# Altium footprint library MBS.PcbLib: 1 footprints
Each footprint in its own frame and in the unit in brackets; x right, y up, seen from the top. Pads: shape width x height; smd on the part's side, far side on the other; paste and mask are expansions set on the pad; w line width, h text height; cw(c..) or ccw(c..) is an arc to the next point about the centre after c.
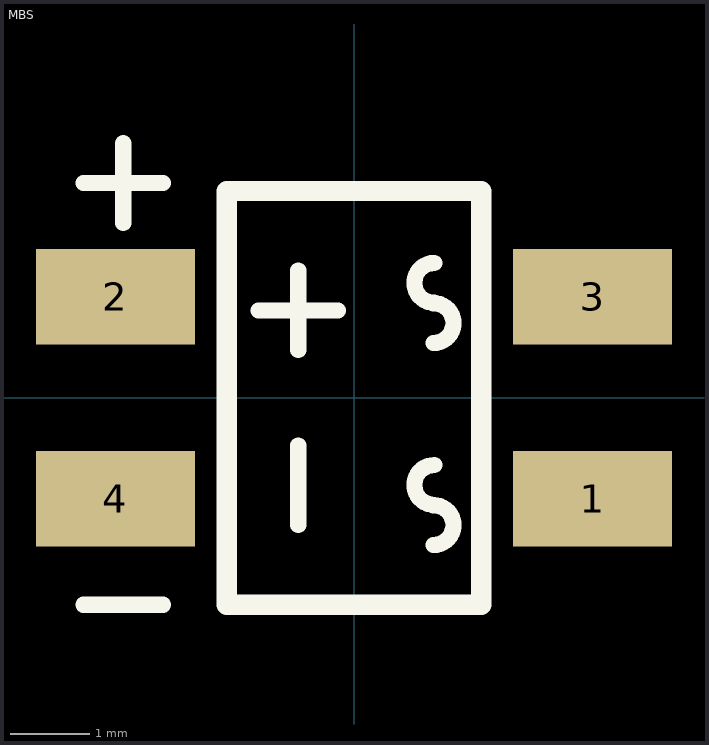
[diagram p0: the footprint, top view; thin cyan lines are the x and y axes]

## MBS [mm]
pads (4):
  rect 2x1.2 smd: 1(3,-1.27) 2(-3,1.27) 3(3,1.27) 4(-3,-1.27)
Top Overlay:
  lines w0.203: -3.4,-2.6 -2.4,-2.6 ; -3.4,2.7 -2.4,2.7 ; -2.9,2.2 -2.9,3.2 ; -1.2,1.1 -0.2,1.1 ; -0.7,-1.6 -0.7,-0.6 ; -0.7,0.6 -0.7,1.6 ; 1,-1.85 ccw(c1,-1.6) 1,-1.35 ; 1,0.69 ccw(c1,0.94) 1,1.19 ; 1.008,-1.345 cw(c1.008,-1.095) 1.008,-0.845 ; 1.008,1.195 cw(c1.008,1.445) 1.008,1.695
  lines w0.254: -1.6,-2.6 -1.6,2.6 1.6,2.6 1.6,-2.6 -1.6,-2.6